# EAGLE library part TE17-28 (library J-CylConn)
TE17RR-28SPCB [AMP,1-207216-6] RECEPTICAL REV FLANGED PCB-MNT SERIES2 TE17-28 TE17RRF-28S [AMP,206038-1] RECEPTICAL REV FLANGED SERIES2 TE17-28 TE17RR-28S [AMP,206038-2] RECEPTICAL FREE HANGING REV SERIES2 TE17-28 TE17PR-28P [AMP,206039-1] PLUG REV SERIES2 TE17-28 TE17RF-28PPCB [AMP,1-207369-1] RECEPTICAL FLANGED PCB-MNT SERIES2 TE17-28 TE17RF-28P [AMP,205840-3] RECEPTICAL FLANGED SERIES2 TE17-28 TE17R-28P [AMP,206152-1] RECEPTICAL FREE HANGING SERIES2 TE17-28 TE17P-28S [AMP,205839-3] PLUG SERIES2 TE17-28 TE-PIN20DF [AMP,1-66506-0] PIN 20-24AWG CRIMP SERIES2 TE-SOC20DF [AMP,66504-9] SOCKET 20-24AWG CRIMP SERIES2 TE-SH17 [AMP,206070-8] SHELL SZ17
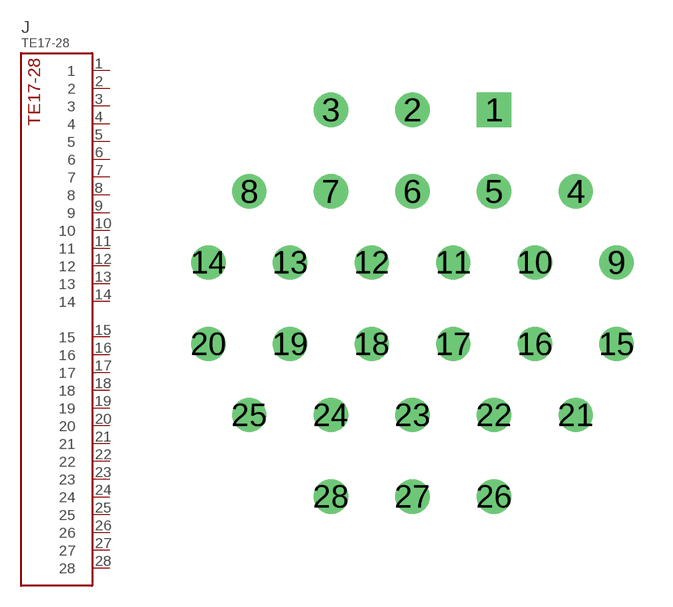
[diagram p3: symbol with the pads of TE17-28; footprint TE17-28]

Designator prefix J

## TE17-28  [TE17-28]
1  1
2  2
3  3
4  4
5  5
6  6
7  7
8  8
9  9
10  10
11  11
12  12
13  13
14  14
15  15
16  16
17  17
18  18
19  19
20  20
21  21
22  22
23  23
24  24
25  25
26  26
27  27
28  28

## Footprint TE17-28 (pad centres in mm)
Receptacles, Printed Circuit Board Mount with .025 [0.64] sq. solder tails TE17RR-28SPCB [AMP,1-207216-6] RECEPTICAL REV FLANGED PCB-MNT SERIES2 TE17-28 TE17R-28PPCB [AMP,1-207369-1] RECEPTICAL FLANGED PCB-MNT SERIES2 TE17-28 NOTE: pin/socket locations matche Standard/Reverse sex Receptacles. It is worth noting that the locations on datasheet are seen looking from back of connector but looking at the top of PCB the locations are fliped (as seen in a mirror).
drill 0.813 square: 1 3.15,7.468
drill 0.813: 2 0,7.468; 3 -3.15,7.468; 4 6.299,4.318; 5 3.15,4.318; 6 0,4.318; 7 -3.15,4.318; 8 -6.299,4.318; 9 7.874,1.575; 10 4.724,1.575; 11 1.575,1.575; 12 -1.575,1.575; 13 -4.724,1.575; 14 -7.874,1.575; 15 7.874,-1.575; 16 4.724,-1.575; 17 1.575,-1.575; 18 -1.575,-1.575; 19 -4.724,-1.575; 20 -7.874,-1.575; 21 6.299,-4.318; 22 3.15,-4.318; 23 0,-4.318; 24 -3.15,-4.318; 25 -6.299,-4.318; 26 3.15,-7.468; 27 0,-7.468; 28 -3.15,-7.468